# EAGLE library part ZY_STEPPER (library i3_Pick_Place)
Pinout for Z and Y steppers
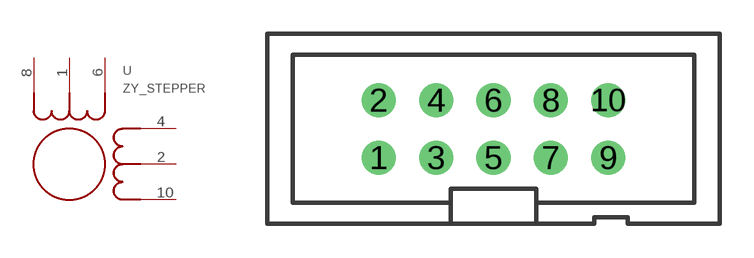
[diagram p0: symbol with the pads of 2X5_SHROUDED; footprint 2X5_SHROUDED]

Designator prefix -

## ZY_STEPPER  [2X5_SHROUDED]
1  CA
2  CB
4  B1
6  A2
8  A1
10  B2

## Footprint 2X5_SHROUDED (pad centres in mm)
2x5 0.1" shrouded header
drill 1 pad 1.422: 1 -5.08,-1.27; 2 -5.08,1.27; 3 -2.54,-1.27; 4 -2.54,1.27; 5 0,-1.27; 6 0,1.27; 7 2.54,-1.27; 8 2.54,1.27; 9 5.08,-1.27; 10 5.08,1.27